# Altium schematic symbol library 3362P-1-103.SchLib: 1 symbol
Pins are listed as number, name and electrical type; pins without a type are passive.

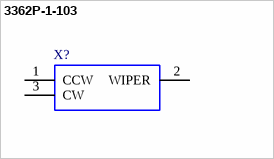
[diagram p0: symbol 3362P-1-103]

## 3362P-1-103
designator X?
3362P top adj cermet trimmer,10K 6mm; Manufacturer_Name: Bourns; Manufacturer_Part_Number: 3362P-1-103; Mouser Part Number: 652-3362P-1-103; Mouser Price/Stock: https://www.mouser.co.uk/ProductDetail/Bourns/3362P-1-103?qs=Uf%2FsSBgPTJJhIGut%2FdpuEA%3D%3D; Arrow Part Number: 3362P-1-103; Arrow Price/Stock: https://www.arrow.com/en/products/3362p-1-103/bourns?region=nac; Mouser Testing Part Number: *; Mouser Testing Price/Stock: *; Datasheet Link: http://www.bourns.com/docs/Product-Datasheets/3362.pdf
footprint 3362P_1
pins: 1 CCW, 2 WIPER, 3 CW